# Altium footprint library SOIC.PcbLib: 24 footprints (part 2 of 2)
Each footprint in its own frame and in the unit in brackets; x right, y up, seen from the top. Pads: shape width x height; smd on the part's side, far side on the other; paste and mask are expansions set on the pad; w line width, h text height; cw(c..) or ccw(c..) is an arc to the next point about the centre after c.
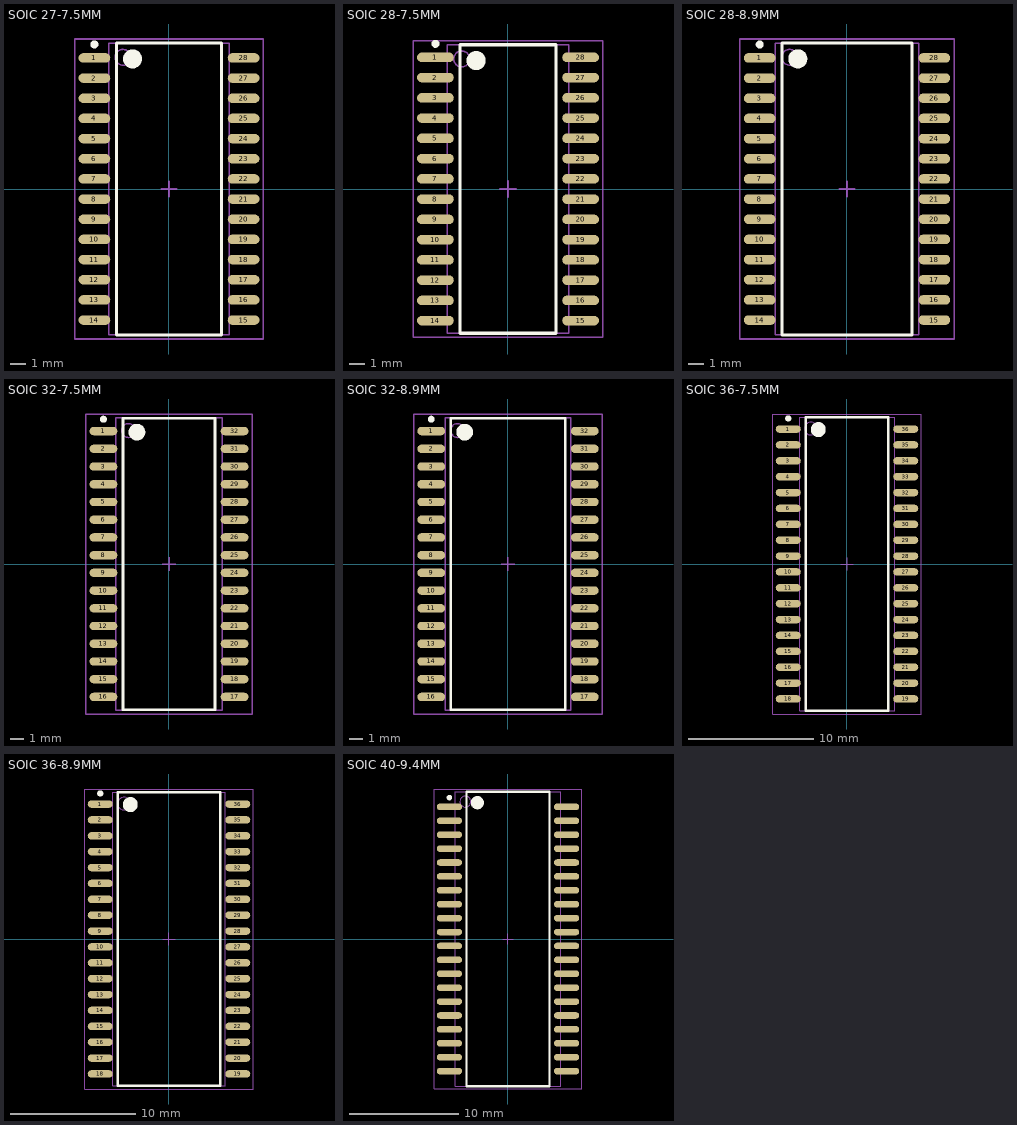
[diagram p1: the footprints below, top view; thin cyan lines are the x and y axes]

## SOIC 27-7.5MM [mm] "SOIC, 28-Leads, Body 18.2x7.5mm, Pitch 1.27mm, IPC Medium Density"
height 2.64
pads (28):
  oval 2x0.6 smd: 1(-4.7,8.255) 2(-4.7,6.985) 3(-4.7,5.715) 4(-4.7,4.445) 5(-4.7,3.175) 6(-4.7,1.905) 7(-4.7,0.635) 8(-4.7,-0.635) 9(-4.7,-1.905) 10(-4.7,-3.175) 11(-4.7,-4.445) 12(-4.7,-5.715) 13(-4.7,-6.985) 14(-4.7,-8.255) 15(4.7,-8.255) 16(4.7,-6.985) 17(4.7,-5.715) 18(4.7,-4.445) 19(4.7,-3.175) 20(4.7,-1.905) 21(4.7,-0.635) 22(4.7,0.635) 23(4.7,1.905) 24(4.7,3.175) 25(4.7,4.445) 26(4.7,5.715) 27(4.7,6.985) 28(4.7,8.255)
Top Overlay:
  circle w0.25: c-4.7,9.105 r0.125
  circle w0.6: c-2.3,8.2 r0.3
  lines w0.2: -3.3,-9.2 -3.3,9.2 3.3,9.2 3.3,-9.2 -3.3,-9.2
Mechanical 13:
  circle w0.1: c-2.9,8.295 r0.5
  lines w0.1: -3.8,-9.195 -3.8,9.195 3.8,9.195 3.8,-9.195 -3.8,-9.195
Mechanical 15:
  lines w0.1: -0.5,0 0.5,0 ; 0,-0.5 0,0.5 ; -5.95,-9.45 -5.95,9.45 5.95,9.45 5.95,-9.45 -5.95,-9.45
3D body: height 2.64, standoff 0, extent -3.8,-9.195 3.8,9.195

## SOIC 28-7.5MM [mm] "SOIC, 28-Leads, Body 17.9x7.5mm, Pitch 1.27mm, IPC Medium Density"
height 2.65
pads (28):
  oval 2.3x0.6 smd: 1(-4.55,8.255) 2(-4.55,6.985) 3(-4.55,5.715) 4(-4.55,4.445) 5(-4.55,3.175) 6(-4.55,1.905) 7(-4.55,0.635) 8(-4.55,-0.635) 9(-4.55,-1.905) 10(-4.55,-3.175) 11(-4.55,-4.445) 12(-4.55,-5.715) 13(-4.55,-6.985) 14(-4.55,-8.255) 15(4.55,-8.255) 16(4.55,-6.985) 17(4.55,-5.715) 18(4.55,-4.445) 19(4.55,-3.175) 20(4.55,-1.905) 21(4.55,-0.635) 22(4.55,0.635) 23(4.55,1.905) 24(4.55,3.175) 25(4.55,4.445) 26(4.55,5.715) 27(4.55,6.985) 28(4.55,8.255)
Top Overlay:
  circle w0.25: c-4.55,9.105 r0.125
  circle w0.6: c-2,8.05 r0.3
  lines w0.2: -3,-9.05 -3,9.05 3,9.05 3,-9.05 -3,-9.05
Mechanical 13:
  circle w0.1: c-2.9,8.155 r0.5
  lines w0.1: -3.8,-9.055 -3.8,9.055 3.8,9.055 3.8,-9.055 -3.8,-9.055
Mechanical 15:
  lines w0.1: -0.5,0 0.5,0 ; 0,-0.5 0,0.5 ; -5.95,-9.3 -5.95,9.3 5.95,9.3 5.95,-9.3 -5.95,-9.3
3D body "User Library-28-SOIC.STEP": height 2.73, standoff -0.03, extent -5.15,-9.01 5.15,8.89

## SOIC 28-8.9MM [mm] "SOIC, 28-Leads, Body 18.3x8.4mm, Pitch 1.27mm, IPC Medium Density"
height 3
pads (28):
  oval 2x0.6 smd: 1(-5.5,8.255) 2(-5.5,6.985) 3(-5.5,5.715) 4(-5.5,4.445) 5(-5.5,3.175) 6(-5.5,1.905) 7(-5.5,0.635) 8(-5.5,-0.635) 9(-5.5,-1.905) 10(-5.5,-3.175) 11(-5.5,-4.445) 12(-5.5,-5.715) 13(-5.5,-6.985) 14(-5.5,-8.255) 15(5.5,-8.255) 16(5.5,-6.985) 17(5.5,-5.715) 18(5.5,-4.445) 19(5.5,-3.175) 20(5.5,-1.905) 21(5.5,-0.635) 22(5.5,0.635) 23(5.5,1.905) 24(5.5,3.175) 25(5.5,4.445) 26(5.5,5.715) 27(5.5,6.985) 28(5.5,8.255)
Top Overlay:
  circle w0.6: c-3.1,8.2 r0.3
  circle w0.25: c-5.5,9.105 r0.125
  lines w0.2: -4.1,-9.2 4.1,-9.2 4.1,9.2 -4.1,9.2 -4.1,-9.2
Mechanical 13:
  circle w0.1: c-3.61,8.295 r0.5
  lines w0.1: -4.51,-9.195 4.51,-9.195 4.51,9.195 -4.51,9.195 -4.51,-9.195
Mechanical 15:
  lines w0.1: -0.5,0 0.5,0 ; 0,-0.5 0,0.5 ; -6.75,-9.45 6.75,-9.45 6.75,9.45 -6.75,9.45 -6.75,-9.45
3D body: height 3, standoff 0, extent -4.51,-9.195 4.51,9.195

## SOIC 32-7.5MM [mm] "SOIC, 32-Leads, Body 20.8x7.5mm, Pitch 1.27mm, IPC Medium Density"
height 2.64
pads (32):
  oval 2x0.6 smd: 1(-4.7,9.525) 2(-4.7,8.255) 3(-4.7,6.985) 4(-4.7,5.715) 5(-4.7,4.445) 6(-4.7,3.175) 7(-4.7,1.905) 8(-4.7,0.635) 9(-4.7,-0.635) 10(-4.7,-1.905) 11(-4.7,-3.175) 12(-4.7,-4.445) 13(-4.7,-5.715) 14(-4.7,-6.985) 15(-4.7,-8.255) 16(-4.7,-9.525) 17(4.7,-9.525) 18(4.7,-8.255) 19(4.7,-6.985) 20(4.7,-5.715) 21(4.7,-4.445) 22(4.7,-3.175) 23(4.7,-1.905) 24(4.7,-0.635) 25(4.7,0.635) 26(4.7,1.905) 27(4.7,3.175) 28(4.7,4.445) 29(4.7,5.715) 30(4.7,6.985) 31(4.7,8.255) 32(4.7,9.525)
Top Overlay:
  circle w0.6: c-2.3,9.45 r0.3
  circle w0.25: c-4.7,10.375 r0.125
  lines w0.2: -3.3,-10.45 3.3,-10.45 3.3,10.45 -3.3,10.45 -3.3,-10.45
Mechanical 13:
  circle w0.1: c-2.9,9.565 r0.5
  lines w0.1: -3.8,-10.465 3.8,-10.465 3.8,10.465 -3.8,10.465 -3.8,-10.465
Mechanical 15:
  lines w0.1: -0.5,0 0.5,0 ; 0,-0.5 0,0.5 ; -5.95,-10.75 5.95,-10.75 5.95,10.75 -5.95,10.75 -5.95,-10.75
3D body: height 2.64, standoff 0, extent -3.8,-10.465 3.8,10.465

## SOIC 32-8.9MM [mm] "SOIC, 32-Leads, Body 20.8x8.9mm, Pitch 1.27mm, IPC Medium Density"
height 2.64
pads (32):
  oval 2x0.6 smd: 1(-5.5,9.525) 2(-5.5,8.255) 3(-5.5,6.985) 4(-5.5,5.715) 5(-5.5,4.445) 6(-5.5,3.175) 7(-5.5,1.905) 8(-5.5,0.635) 9(-5.5,-0.635) 10(-5.5,-1.905) 11(-5.5,-3.175) 12(-5.5,-4.445) 13(-5.5,-5.715) 14(-5.5,-6.985) 15(-5.5,-8.255) 16(-5.5,-9.525) 17(5.5,-9.525) 18(5.5,-8.255) 19(5.5,-6.985) 20(5.5,-5.715) 21(5.5,-4.445) 22(5.5,-3.175) 23(5.5,-1.905) 24(5.5,-0.635) 25(5.5,0.635) 26(5.5,1.905) 27(5.5,3.175) 28(5.5,4.445) 29(5.5,5.715) 30(5.5,6.985) 31(5.5,8.255) 32(5.5,9.525)
Top Overlay:
  circle w0.25: c-5.5,10.375 r0.125
  circle w0.6: c-3.1,9.45 r0.3
  lines w0.2: -4.1,-10.45 -4.1,10.45 4.1,10.45 4.1,-10.45 -4.1,-10.45
Mechanical 13:
  circle w0.1: c-3.61,9.565 r0.5
  lines w0.1: -4.51,-10.465 -4.51,10.465 4.51,10.465 4.51,-10.465 -4.51,-10.465
Mechanical 15:
  lines w0.1: -0.5,0 0.5,0 ; 0,-0.5 0,0.5 ; -6.75,-10.75 -6.75,10.75 6.75,10.75 6.75,-10.75 -6.75,-10.75
3D body: height 2.64, standoff 0, extent -4.51,-10.465 4.51,10.465

## SOIC 36-7.5MM [mm] "SOIC, 36-Leads, Body 23.3x7.5mm, Pitch 1.27mm, IPC Medium Density"
height 2.64
pads (36):
  oval 2x0.6 smd: 1(-4.7,10.795) 2(-4.7,9.525) 3(-4.7,8.255) 4(-4.7,6.985) 5(-4.7,5.715) 6(-4.7,4.445) 7(-4.7,3.175) 8(-4.7,1.905) 9(-4.7,0.635) 10(-4.7,-0.635) 11(-4.7,-1.905) 12(-4.7,-3.175) 13(-4.7,-4.445) 14(-4.7,-5.715) 15(-4.7,-6.985) 16(-4.7,-8.255) 17(-4.7,-9.525) 18(-4.7,-10.795) 19(4.7,-10.795) 20(4.7,-9.525) 21(4.7,-8.255) 22(4.7,-6.985) 23(4.7,-5.715) 24(4.7,-4.445) 25(4.7,-3.175) 26(4.7,-1.905) 27(4.7,-0.635) 28(4.7,0.635) 29(4.7,1.905) 30(4.7,3.175) 31(4.7,4.445) 32(4.7,5.715) 33(4.7,6.985) 34(4.7,8.255) 35(4.7,9.525) 36(4.7,10.795)
Top Overlay:
  circle w0.25: c-4.7,11.645 r0.125
  circle w0.6: c-2.3,10.75 r0.3
  lines w0.2: -3.3,-11.75 -3.3,11.75 3.3,11.75 3.3,-11.75 -3.3,-11.75
Mechanical 13:
  circle w0.1: c-2.9,10.835 r0.5
  lines w0.1: -3.8,-11.735 -3.8,11.735 3.8,11.735 3.8,-11.735 -3.8,-11.735
Mechanical 15:
  lines w0.1: -0.5,0 0.5,0 ; 0,-0.5 0,0.5 ; -5.95,-12 -5.95,12 5.95,12 5.95,-12 -5.95,-12
3D body: height 2.64, standoff 0, extent -3.8,-11.735 3.8,11.735

## SOIC 36-8.9MM [mm] "SOIC, 36-Leads, Body 23.3x8.9mm, Pitch 1.27mm, IPC Medium Density"
height 2.64
pads (36):
  oval 2x0.6 smd: 1(-5.5,10.795) 2(-5.5,9.525) 3(-5.5,8.255) 4(-5.5,6.985) 5(-5.5,5.715) 6(-5.5,4.445) 7(-5.5,3.175) 8(-5.5,1.905) 9(-5.5,0.635) 10(-5.5,-0.635) 11(-5.5,-1.905) 12(-5.5,-3.175) 13(-5.5,-4.445) 14(-5.5,-5.715) 15(-5.5,-6.985) 16(-5.5,-8.255) 17(-5.5,-9.525) 18(-5.5,-10.795) 19(5.5,-10.795) 20(5.5,-9.525) 21(5.5,-8.255) 22(5.5,-6.985) 23(5.5,-5.715) 24(5.5,-4.445) 25(5.5,-3.175) 26(5.5,-1.905) 27(5.5,-0.635) 28(5.5,0.635) 29(5.5,1.905) 30(5.5,3.175) 31(5.5,4.445) 32(5.5,5.715) 33(5.5,6.985) 34(5.5,8.255) 35(5.5,9.525) 36(5.5,10.795)
Top Overlay:
  circle w0.6: c-3.1,10.75 r0.3
  circle w0.25: c-5.5,11.645 r0.125
  lines w0.2: -4.1,-11.75 4.1,-11.75 4.1,11.75 -4.1,11.75 -4.1,-11.75
Mechanical 13:
  circle w0.1: c-3.61,10.835 r0.5
  lines w0.1: -4.51,-11.735 4.51,-11.735 4.51,11.735 -4.51,11.735 -4.51,-11.735
Mechanical 15:
  lines w0.1: -0.5,0 0.5,0 ; 0,-0.5 0,0.5 ; -6.75,-12 6.75,-12 6.75,12 -6.75,12 -6.75,-12
3D body: height 2.64, standoff 0, extent -4.51,-11.735 4.51,11.735

## SOIC 40-9.4MM [mm] "SOIC, 40-Leads, Body 26.6x9.4mm, Pitch 1.27mm, IPC Medium Density"
height 2.7
pads (40):
  oval 2.3x0.6 smd: 1(-5.35,12.065) 2(-5.35,10.795) 3(-5.35,9.525) 4(-5.35,8.255) 5(-5.35,6.985) 6(-5.35,5.715) 7(-5.35,4.445) 8(-5.35,3.175) 9(-5.35,1.905) 10(-5.35,0.635) 11(-5.35,-0.635) 12(-5.35,-1.905) 13(-5.35,-3.175) 14(-5.35,-4.445) 15(-5.35,-5.715) 16(-5.35,-6.985) 17(-5.35,-8.255) 18(-5.35,-9.525) 19(-5.35,-10.795) 20(-5.35,-12.065) 21(5.35,-12.065) 22(5.35,-10.795) 23(5.35,-9.525) 24(5.35,-8.255) 25(5.35,-6.985) 26(5.35,-5.715) 27(5.35,-4.445) 28(5.35,-3.175) 29(5.35,-1.905) 30(5.35,-0.635) 31(5.35,0.635) 32(5.35,1.905) 33(5.35,3.175) 34(5.35,4.445) 35(5.35,5.715) 36(5.35,6.985) 37(5.35,8.255) 38(5.35,9.525) 39(5.35,10.795) 40(5.35,12.065)
Top Overlay:
  circle w0.6: c-2.8,12.45 r0.3
  circle w0.25: c-5.35,12.915 r0.125
  lines w0.2: -3.8,-13.45 3.8,-13.45 3.8,13.45 -3.8,13.45 -3.8,-13.45
Mechanical 13:
  circle w0.1: c-3.9,12.55 r0.5
  lines w0.1: -4.8,-13.45 4.8,-13.45 4.8,13.45 -4.8,13.45 -4.8,-13.45
Mechanical 15:
  lines w0.1: -0.5,0 0.5,0 ; 0,-0.5 0,0.5 ; -6.75,-13.7 6.75,-13.7 6.75,13.7 -6.75,13.7 -6.75,-13.7
3D body: height 2.7, standoff 0, extent -4.8,-13.45 4.8,13.45